# EAGLE library part GNUBLIN-DIP (library GNUBLIN-DIP)
GNUBLIN-DIP (embedded projects GmbH) mit LPC313X und A43E26XX
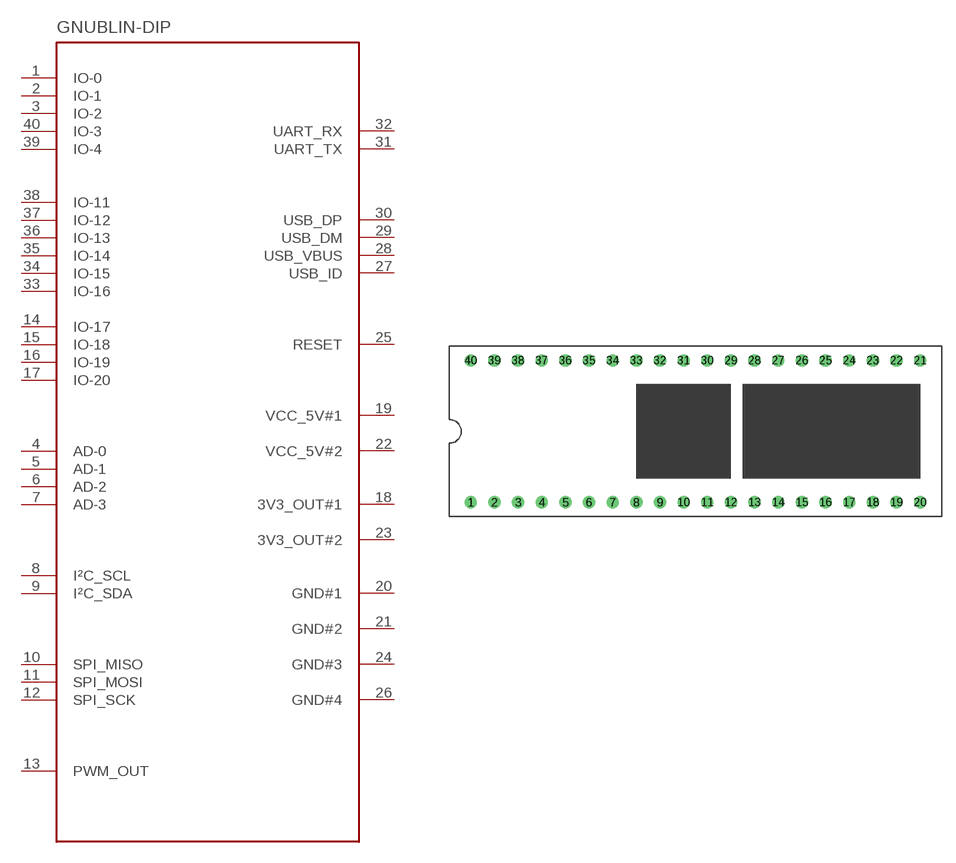
[diagram p0: symbol with the pads of DIL40; footprint DIL40]

Designator prefix -

## GNUBLIN-DIP  [DIL40]
1  IO-0
2  IO-1
3  IO-2
4  AD-0  in
5  AD-1  in
6  AD-2  in
7  AD-3  in
8  I²C_SCL
9  I²C_SDA
10  SPI_MISO
11  SPI_MOSI
12  SPI_SCK
13  PWM_OUT  out
14  IO-17
15  IO-18
16  IO-19
17  IO-20
18  3V3_OUT#1  sup
19  VCC_5V#1  pwr
20  GND#1  sup
21  GND#2  sup
22  VCC_5V#2  pwr
23  3V3_OUT#2  sup
24  GND#3  sup
25  RESET  in
26  GND#4  sup
27  USB_ID
28  USB_VBUS
29  USB_DM
30  USB_DP
31  UART_TX  out
32  UART_RX  in
33  IO-16
34  IO-15
35  IO-14
36  IO-13
37  IO-12
38  IO-11
39  IO-4
40  IO-3

## Footprint DIL40 (pad centres in mm)
drill 0.813 round: 1 3.81,1.27; 2 6.35,1.27; 3 8.89,1.27; 4 11.43,1.27; 5 13.97,1.27; 6 16.51,1.27; 7 19.05,1.27; 8 21.59,1.27; 9 24.13,1.27; 10 26.67,1.27; 11 29.21,1.27; 12 31.75,1.27; 13 34.29,1.27; 14 36.83,1.27; 15 39.37,1.27; 16 41.91,1.27; 17 44.45,1.27; 18 46.99,1.27; 19 49.53,1.27; 20 52.07,1.27; 21 52.07,16.51; 22 49.53,16.51; 23 46.99,16.51; 24 44.45,16.51; 25 41.91,16.51; 26 39.37,16.51; 27 36.83,16.51; 28 34.29,16.51; 29 31.75,16.51; 30 29.21,16.51; 31 26.67,16.51; 32 24.13,16.51; 33 21.59,16.51; 34 19.05,16.51; 35 16.51,16.51; 36 13.97,16.51; 37 11.43,16.51; 38 8.89,16.51; 39 6.35,16.51; 40 3.81,16.51